# Altium schematic symbol library 105313-1306.SchLib: 1 symbol
Pins are listed as number, name and electrical type; pins without a type are passive.

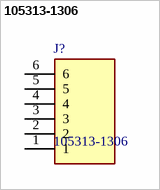
[diagram p0: symbol 105313-1306]

## 105313-1306
designator J?
Connector Header Through Hole, Right Angle 6 position 0.098" (2.50mm); Manufacturer_Name: Molex; Geometry.Height: 6.84mm; Mouser Part Number: 538-105313-1306; Mouser Price/Stock: https://www.mouser.co.uk/ProductDetail/Molex/105313-1306?qs=PqFvFmEiOr50lWn2UaMD6w%3D%3D; Manufacturer_Part_Number: 105313-1306; Datasheet Link: https://tools.molex.com/pdm_docs/sd/1053131306_sd.pdf
footprint 1053131306
pins: 1, 2, 3, 4, 5, 6